# EAGLE library part DUAL_INVERTER (library timelapse-prototype-parts)
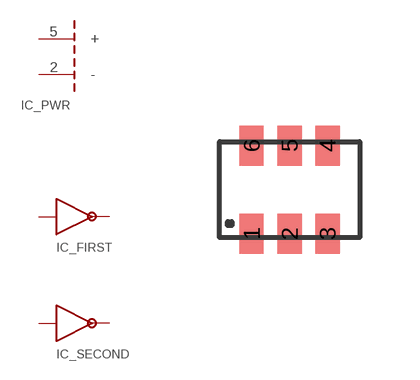
[diagram p6: symbol with the pads of TSOP-6; footprint TSOP-6]

Designator prefix IC; gates _FIRST=INVERT _SECOND=INVERT _PWR=COMMON_IC_PWR_SYMBOL

## DUAL_INVERTERNL27WZ04  [TSOP-6]
1  _FIRST:IN
2  _PWR:-
3  _SECOND:IN
4  _SECOND:#OUT
5  _PWR:+
6  _FIRST:#OUT

## Footprint TSOP-6 (pad centres in mm)
smd 0.6 x 1: 1 0,0; 2 0.95,0; 3 1.9,0; 4 1.9,2.2; 5 0.95,2.2; 6 0,2.2